# Altium footprint library Common.PcbLib: 11 footprints
Each footprint in its own frame and in the unit in brackets; x right, y up, seen from the top. Pads: shape width x height; smd on the part's side, far side on the other; paste and mask are expansions set on the pad; w line width, h text height; cw(c..) or ccw(c..) is an arc to the next point about the centre after c.
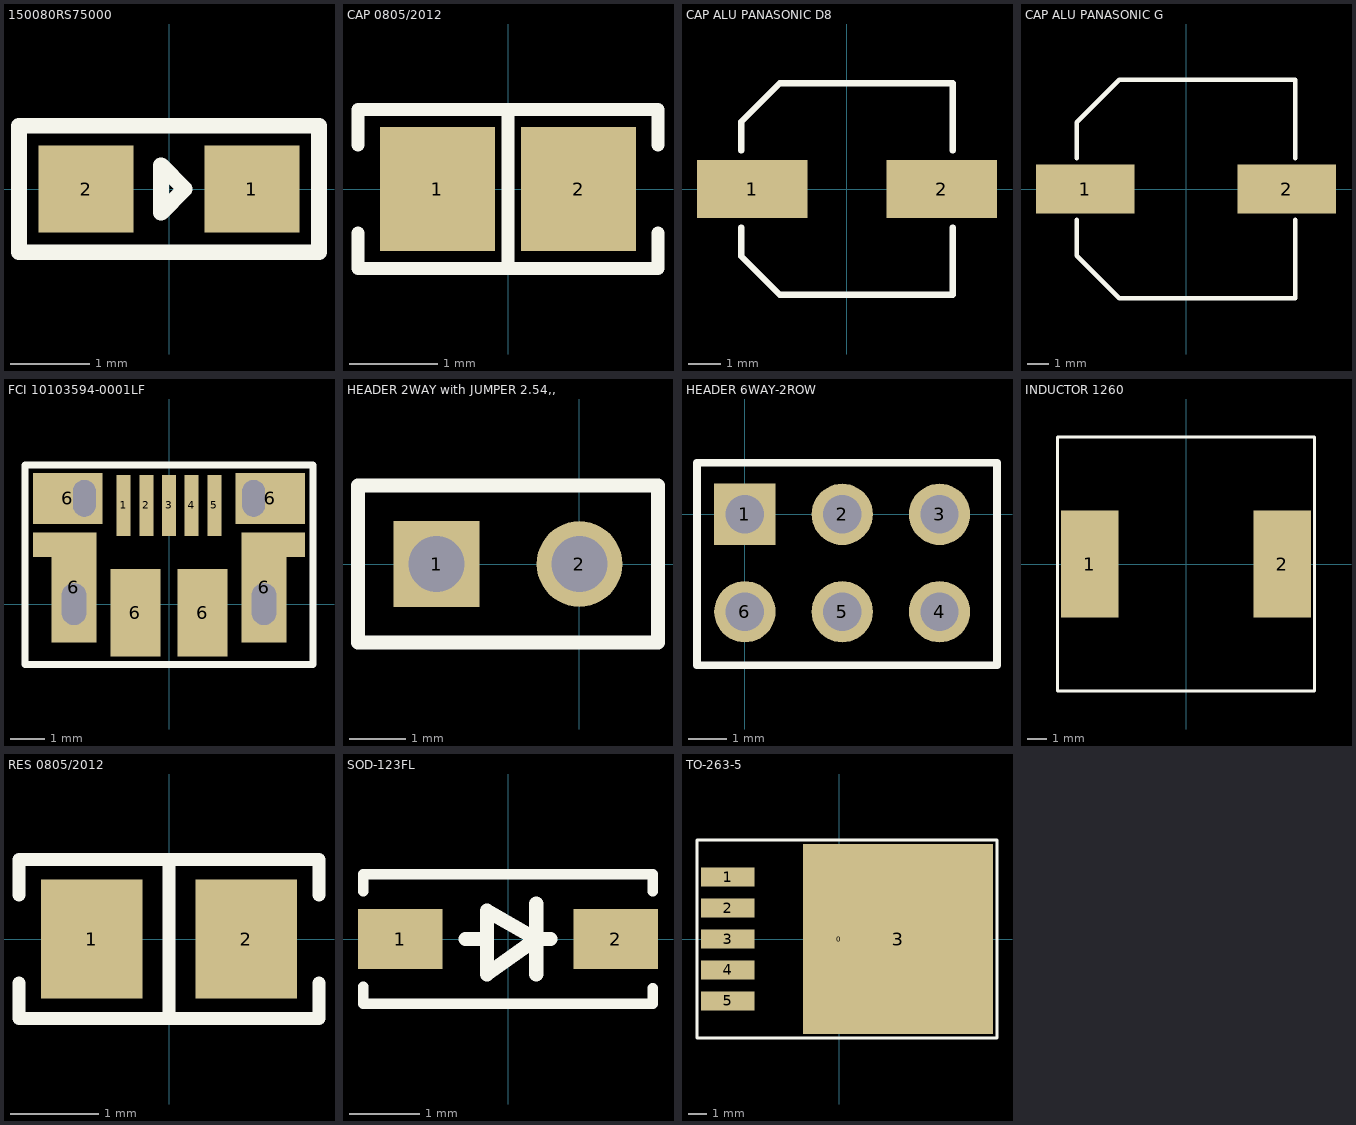
[diagram p0: the footprints below, top view; thin cyan lines are the x and y axes]

## 150080RS75000 [mm]
pads (2):
  rect 1.2x1.1 smd: 1(1.05,0) 2(-1.05,0)
Top Overlay:
  lines w0.2: -1.9,-0.8 -1.9,0.8 1.9,0.8 1.9,-0.8 -1.9,-0.8 ; -0.1,-0.3 0.2,0 -0.1,0.3 -0.1,-0.3
3D body "0805_R.stp": height 0.7, standoff -0.01, extent -1,-0.625 1,0.625

## CAP 0805/2012 [mm] "Chip Capacitor, 2-Leads, Body 2.00x1.20mm, IPC Medium Density"
height 1.15
pads (2):
  rect 1.3x1.4 smd: 1(-0.8,0) 2(0.8,0)
Top Overlay:
  lines w0.15: -1.7,-0.5 -1.7,-0.9 1.7,-0.9 1.7,-0.5 ; -1.7,0.5 -1.7,0.9 1.7,0.9 1.7,0.5 ; 0,-0.9 0,0.9
3D body "0805 cap.STEP": height 1.26, standoff -0.02, extent -1,-0.637 1,0.637

## CAP ALU PANASONIC D8 [mm] "Aluminum Electrolytic Capacitor, Body 6.60x6.60x7.70mm, IPC Low Density"
height 7.7
pads (2):
  rect 3.45x1.8 smd: 1(-2.95,0) 2(2.95,0)
Top Overlay:
  lines w0.2: -3.3,-1.2 -3.3,-2.1 -2.1,-3.3 3.3,-3.3 3.3,-1.2 ; -3.3,1.2 -3.3,2.1 -2.1,3.3 3.3,3.3 3.3,1.2
3D body: height 7.7, standoff 0, extent -3.65,-3.25 3.65,3.35

## CAP ALU PANASONIC G [mm] "Aluminum Electrolytic Capacitor, Body 10.30x10.30x10.50mm, IPC Low Density"
height 10.5
pads (2):
  rect 4.65x2.3 smd: 1(-4.75,0) 2(4.75,0)
Top Overlay:
  lines w0.2: -5.15,-1.45 -5.15,-3.15 -3.15,-5.15 5.15,-5.15 5.15,-1.45 ; -5.15,1.45 -5.15,3.15 -3.15,5.15 5.15,5.15 5.15,1.45
3D body "Panasonic G.step": height 10.2, standoff 0, extent -5.85,-5.15 5.85,5.15

## FCI 10103594-0001LF [mm] "MicroUSB Type B Connector"
pads (17):
  rect 0.4x1.75 smd: 1(-1.3,2.835) 2(-0.65,2.835) 3(0,2.835) 4(0.65,2.835) 5(1.3,2.835)
  rect 2x1.46 smd: 6(-2.9,3.04) 6(2.9,3.04)
  rect 1.3x3.15 smd: 6(-2.725,0.485) 6(2.725,0.485)
  rect 1.425x2.5 smd: 6(-0.962,-0.24) 6(0.962,-0.24)
  rect 0.525x0.7 smd: ""(-3.638,1.71) ""(3.638,1.71)
  rrect50% 0.7x1.2 hole 0.7 slot 1.2 at 90 deg: ""(-2.725,0.01) ""(2.725,0.01)
  rrect50% 0.65x1.05 hole 0.65 slot 1.05 at 90 deg: ""(-2.425,3.04) ""(2.425,3.04)
Top Overlay:
  lines w0.2: -4.125,-1.725 -4.125,4 4.125,4 4.125,-1.725 -4.125,-1.725
3D body "FCI 10103594.STEP": height 2.88, standoff -0.72, extent -4.02,-2.824 4.02,3.209

## HEADER 2WAY with JUMPER 2.54,, [mil]
pads (2):
  rect 60x60 hole 39.37: 1(-100,0)
  round 60 hole 39.37: 2(0,0)
Top Overlay:
  lines w10: -155,-55 -155,55 55,55 55,-55 -155,-55
3D body "MJ-0.step": height 338.58, standoff 98.43, extent -150,-47.26 50,47.23
3D body "Pin Header 1x2 TH Pitch 2.54mm.stp": height 225.59, standoff -274.24, extent -149.99,-49.99 50.01,50.01

## HEADER 6WAY-2ROW [mm]
pads (6):
  rect 1.6x1.6 hole 1: 1(0,0)
  round 1.6 hole 1: 2(2.54,0) 3(5.08,0) 4(5.08,-2.54) 5(2.54,-2.54) 6(0,-2.54)
Top Overlay:
  lines w0.2: -1.25,-3.937 6.579,-3.937 6.579,1.346 -1.25,1.346 -1.25,-3.937
3D body "Pin Header 2x3 TH Pitch 2.54mm.stp": height 9.5, standoff -3.2, extent -1.143,-3.84 6.477,1.24

## INDUCTOR 1260 [mm] "SMD INDUCTOR 12.6X12.6X6mm"
pads (2):
  rect 2.9x5.4 smd: 1(-4.85,0) 2(4.85,0)
Top Overlay:
  lines w0.15: -6.477,-6.4 6.477,-6.4 6.477,6.4 -6.477,6.4 -6.477,-6.4
3D body "srr1260.stp": height 6, standoff 0, extent -6.25,-6.25 6.25,6.25

## RES 0805/2012 [mm] "Chip Resistor, 2-Leads, Body 2.00x1.25mm, IPC Medium Density"
height 0.7
pads (2):
  rect 1.15x1.35 smd: 1(-0.875,0) 2(0.875,0)
Top Overlay:
  lines w0.15: -1.7,-0.5 -1.7,-0.9 1.7,-0.9 1.7,-0.5 ; -1.7,0.5 -1.7,0.9 1.7,0.9 1.7,0.5 ; 0,-0.9 0,0.9
3D body "RESC-0805.stp": height 0.6, standoff 0, extent -1.05,-0.675 1.05,0.675

## SOD-123FL [mm] "SOD, 2-Leads, Body 1.55x3.70mm, IPC Medium Density"
height 1.35
pads (2):
  rect 1.2x0.85 smd: 1(-1.525,0) 2(1.525,0)
Top Overlay:
  lines w0.15: -2.05,-0.675 -2.05,-0.916 2.05,-0.916 2.05,-0.7 ; -2.05,0.675 -2.05,0.916 2.05,0.916 2.05,0.675
  lines w0.2: -0.6,0 -0.3,0 ; 0.4,-0.5 0.4,0.5 ; 0.6,0 0.4,0 ; 0.4,0 -0.3,0.4 -0.3,-0.5 0.4,0
3D body "SOD-123FL.step": height 0.95, standoff 0.01, extent -1.794,-0.825 1.794,0.825

## TO-263-5 [mm] "D-PAK/TO-263-5; 5 Leads; Body 14.4 (inc. leads) x 10.4 mm (LxW max)"
height 4.65
pads (7):
  round 0.5 on Mech14: 0(0,0)
  rect 2.95x1.05 smd: 1(-6.15,3.41) 2(-6.15,1.705) 3(-6.15,0) 4(-6.15,-1.705) 5(-6.15,-3.41)
  rect 10.5x10.5 smd: 3(3.25,0)
Top Overlay:
  lines w0.15: -7.849,-5.461 8.712,-5.461 8.712,5.461 -3.759,5.461 -7.849,5.461 -7.849,-5.461
3D body "TO-263.step": height 4.55, standoff 0, extent -7.228,-5.175 8,5.124